# Altium schematic symbol library Samsung-ChipResistors.SchLib: 6 symbols
Pins are listed as number, name and electrical type; pins without a type are passive.

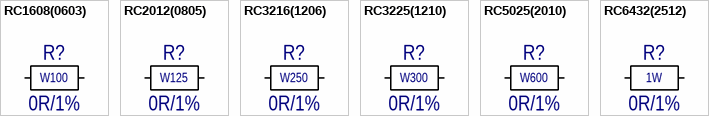
[diagram p0: symbols RC1608(0603) to RC6432(2512)]

## RC1608(0603)
designator R?  value 0R/1%  (hidden comment: *)
Samsung Chip Resistors General Standard 0603; Manufacturer: SAMSUNG ELECTRO-MECHANICS
footprint ChipResistor-0603-L1600-W800-B350-H450-Overlay-L3200-W1600 (Chip Resistor, 2-Leads, Body 1.600x0.800x0.450mm, IPC Medium Density)
footprint ChipResistor-0603-L1600-W800-B350-H450 (Chip Resistor, 2-Leads, Body 1.600x0.800x0.450mm, IPC Medium Density)
pins: 1, 2
text: W100

## RC2012(0805)
designator R?  value 0R/1%  (hidden comment: *)
Samsung Chip Resistors General Standard 0805; Manufacturer: SAMSUNG ELECTRO-MECHANICS
footprint CHIPRESISTOR-0805-L2000-W1250-B350-H550-Overlay-L4000-W2000 (Chip Resistor, 2-Leads, Body 2.000x1.250x0.550mm, IPC Medium Density)
footprint CHIPRESISTOR-0805-L2000-W1250-B350-H550 (Chip Resistor, 2-Leads, Body 2.000x1.250x0.550mm, IPC Medium Density)
pins: 1, 2
text: W125

## RC3216(1206)
designator R?  value 0R/1%  (hidden comment: *)
Samsung Chip Resistors General Standard 1206; Manufacturer: SAMSUNG ELECTRO-MECHANICS
footprint CHIPRESISTOR-1206-L3200-W1600-B400-H550-Overlay-L4800-W2400 (Chip Resistor, 2-Leads, Body 3.200x1.600mm, IPC Medium Density)
footprint CHIPRESISTOR-1206-L3200-W1600-B400-H550 (Chip Resistor, 2-Leads, Body 3.200x1.600mm, IPC Medium Density)
pins: 1, 2
text: W250

## RC3225(1210)
designator R?  value 0R/1%  (hidden comment: *)
Samsung Chip Resistors General Standard 1210; Manufacturer: SAMSUNG ELECTRO-MECHANICS
footprint CHIPRESISTOR-2010-L5000-W2500-B600-H550-OVERLAY-L6800-W3000 (Chip Resistor, 2-Leads, Body 5.000x2.500mm, IPC Medium Density)
footprint CHIPRESISTOR-1210-L3200-W2550-B400-H550 (Chip Resistor, 2-Leads, Body 3.200x2.550mm, IPC Medium Density)
pins: 1, 2
text: W300

## RC5025(2010)
designator R?  value 0R/1%  (hidden comment: *)
Samsung Chip Resistors General Standard 1210; Manufacturer: SAMSUNG ELECTRO-MECHANICS
footprint CHIPRESISTOR-2010-L5000-W2500-B600-H550-OVERLAY-L6800-W3000 (Chip Resistor, 2-Leads, Body 5.000x2.500mm, IPC Medium Density)
footprint CHIPRESISTOR-2010-L5000-W2500-B600-H550 (Chip Resistor, 2-Leads, Body 5.000x2.500mm, IPC Medium Density)
pins: 1, 2
text: W600

## RC6432(2512)
designator R?  value 0R/1%  (hidden comment: *)
Samsung Chip Resistors General Standard 2512; Manufacturer: SAMSUNG ELECTRO-MECHANICS
footprint CHIPRESISTOR-2512-L6300-W3200-B600-H550-Overlay-L8000-W4000 (Chip Resistor, 2-Leads, Body 6.300x3.200x0.550mm, IPC Medium Density)
footprint CHIPRESISTOR-2512-L6300-W3200-B600-H550 (Chip Resistor, 2-Leads, Body 6.300x3.200x0.550mm, IPC Medium Density)
pins: 1, 2
text: 1W